# Altium schematic symbol library Antennas.SchLib: 1 symbol
Pins are listed as number, name and electrical type; pins without a type are passive.

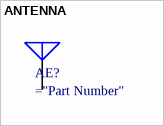
[diagram p0: symbol ANTENNA]

## ANTENNA
designator AE?
=Description
pins: 1